# Altium schematic symbol library PassiveSMT.schlib: 9 symbols
Pins are listed as number, name and electrical type; pins without a type are passive.

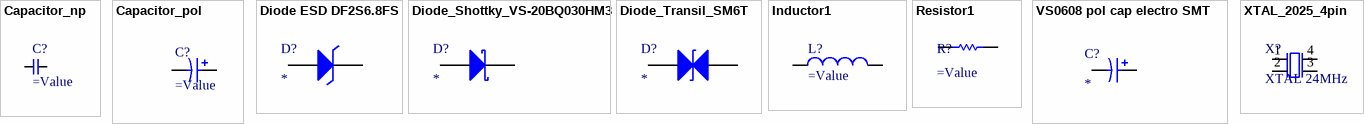
[diagram p0: symbols Capacitor_np to XTAL_2025_4pin]

## Capacitor_np
designator C?
Non-polarised capacitor
footprint CAP0603 (Chip Capacitor, 2-Leads, Body 1.6x0.8mm, IPC Medium Density)
pins: 1, 2

## Capacitor_pol
designator C?
Polarised capacitor
footprint CAPAE7066X80M (Aluminum Electrolytic Capacitor, Body 6,60x6,60x8,00mm, IPC Low Density  UWT1C221MCL1GS)
footprint CAPAE7868X80M (Aluminum Electrolytic Capacitor, Body 6,80x6,80x8,00mm, IPC Low Density)
footprint CAPAE6083X105M (Aluminum Electrolytic Capacitor, Body 8,30x8,30x10,50mm, IPC Low Density MCVVT6R3M102FB3L)
footprint EEE-HC1C101XP
pins: 1 A, 2 K

## Diode ESD DF2S6.8FS
designator D?
footprint Diode SOD-923 DF2S6.8FS (DF2S6.8FS)
pins: 1 K, 2 A

## Diode_Shottky_VS-20BQ030HM3
designator D?
footprint Diode_Shottky_VS-20BQ030HM3
pins: 1 K, 2 A

## Diode_Transil_SM6T
designator D?
footprint Diode_Transil_SM6T
pins: 1, 2

## Inductor1
designator L?
Inductor; Value: =Value
footprint IND0603 (Chip Inductor, 2-Leads, Body 1.6x0.8mm, IPC Medium Density)
footprint SRU8028A-150Y (Precision Wire Wound Inductor, 2-Leads, Body 8,00x8,00mm, IPC Medium Density)
footprint Murata-1264EY-150M=P3 (Precision Wire Wound Inductor, 2-Leads, Body 6,30x6,30mm, IPC Medium Density)
pins: 1, 2

## Resistor1
designator R?
Resistor; Value: =Value
footprint RES0603 (Chip Resistor, 2-Leads, Body 1.6x0.8mm, IPC Medium Density)
pins: 1, 2
1 alternate drawing of the same symbol

## VS0608 pol cap electro SMT
designator C?
footprint EEE-HC1C101XP
pins: 1 K, 2 A

## XTAL_2025_4pin
designator X?, comment XTAL 24MHz
footprint XTAL_2025_4Pin
pins: 1 EN, 2 GND, 3 OUT, 4 VDD